# Altium schematic symbol library FR5969v1.0.SchLib: 7 symbols
Pins are listed as number, name and electrical type; pins without a type are passive.

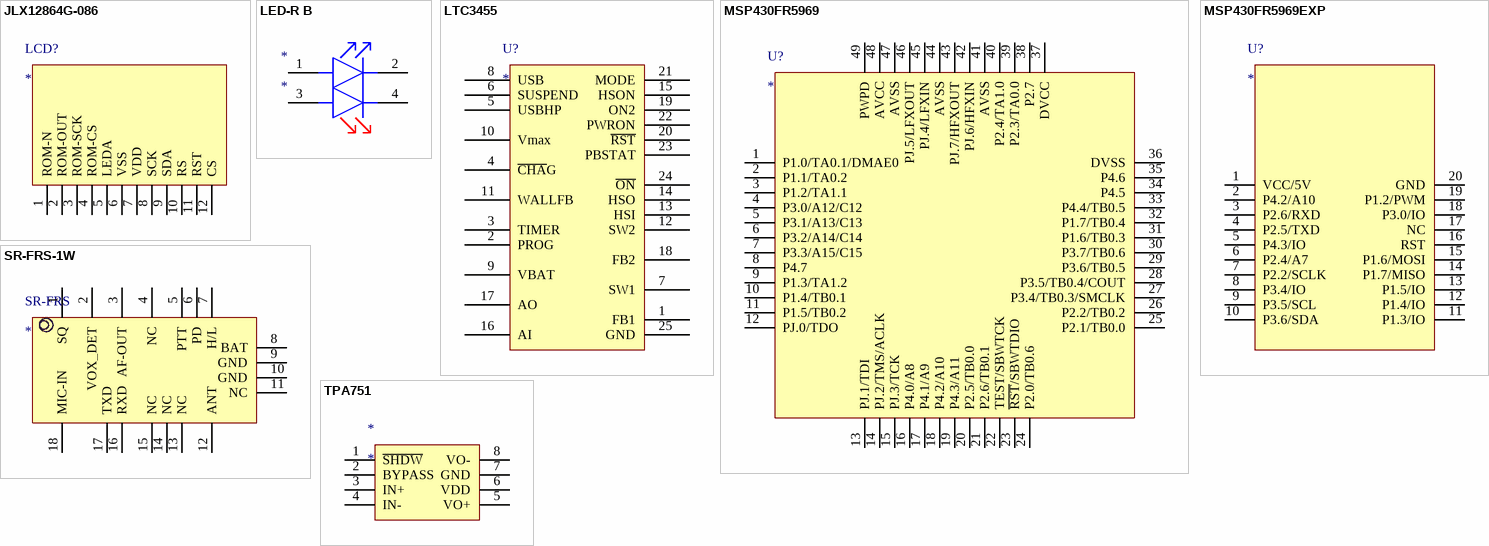
[diagram p0: symbols JLX12864G-086 to TPA751]

## JLX12864G-086
designator LCD?
LCD
pins: 1 ROM-N, 2 ROM-OUT, 3 ROM-SCK, 4 ROM-CS, 5 LEDA, 6 VSS, 7 VDD, 8 SCK, 9 SDA, 10 RS, 11 RST, 12 CS

## LED-R B
designator *
pins: 1, 2, 3, 4

## LTC3455
designator U?
LI-CELL charger
footprint QFN24 (QFN, 24-Leads)
pins: 1 FB1, 2 PROG, 3 TIMER, 4 ~{CHA}G, 5 USBHP, 6 SUSPEND, 7 SW1, 8 USB, 9 VBAT, 10 Vmax, 11 WALLFB, 12 SW2, 13 HSI, 14 HSO, 15 HSON, 16 AI, 17 AO, 18 FB2, 19 ON2, 20 ~{RST}, 21 MODE, 22 PWRON, 23 PBSTAT, 24 ~{ON}, 25 GND

## MSP430FR5969
designator U?
MSP420FRxxxx
footprint QFN-48 (Footprint not found)
pins: 1 P1.0/TA0.1/DMAE0, 2 P1.1/TA0.2, 3 P1.2/TA1.1, 4 P3.0/A12/C12, 5 P3.1/A13/C13, 6 P3.2/A14/C14, 7 P3.3/A15/C15, 8 P4.7, 9 P1.3/TA1.2, 10 P1.4/TB0.1, 11 P1.5/TB0.2, 12 PJ.0/TDO, 13 PJ.1/TDI, 14 PJ.2/TMS/ACLK, 15 PJ.3/TCK, 16 P4.0/A8, 17 P4.1/A9, 18 P4.2/A10, 19 P4.3/A11, 20 P2.5/TB0.0, 21 P2.6/TB0.1, 22 TEST/SBWTCK, 23 ~{RST}/SBWTDIO, 24 P2.0/TB0.6, 25 P2.1/TB0.0, 26 P2.2/TB0.2, 27 P3.4/TB0.3/SMCLK, 28 P3.5/TB0.4/COUT, 29 P3.6/TB0.5, 30 P3.7/TB0.6, 31 P1.6/TB0.3, 32 P1.7/TB0.4, 33 P4.4/TB0.5, 34 P4.5, 35 P4.6, 36 DVSS, 37 DVCC, 38 P2.7, 39 P2.3/TA0.0, 40 P2.4/TA1.0, 41 AVSS, 42 PJ.6/HFXIN, 43 PJ.7/HFXOUT, 44 AVSS, 45 PJ.4/LFXIN, 46 PJ.5/LFXOUT, 47 AVSS, 48 AVCC, 49 PWPD

## MSP430FR5969EXP
designator U?
MSP430FR5969 Launchpad board
footprint MSP430FR5969EXP (Footprint not found)
pins: 1 VCC/5V, 2 P4.2/A10, 3 P2.6/RXD, 4 P2.5/TXD, 5 P4.3/IO, 6 P2.4/A7, 7 P2.2/SCLK, 8 P3.4/IO, 9 P3.5/SCL, 10 P3.6/SDA, 11 P1.3/IO, 12 P1.4/IO, 13 P1.5/IO, 14 P1.7/MISO, 15 P1.6/MOSI, 16 RST, 17 NC, 18 P3.0/IO, 19 P1.2/PWM, 20 GND

## SR-FRS-1W
designator SR-FRS
footprint SR-FRS-1W
pins: 1 SQ, 2 VOX_DET, 3 AF-OUT, 4 NC, 5 PTT, 6 PD, 7 H/L, 8 BAT, 9 GND, 10 GND, 11 NC, 12 ANT, 13 NC, 14 NC, 15 NC, 16 RXD, 17 TXD, 18 MIC-IN

## TPA751
designator *
700mW AB类OP
footprint SO-8
pins: 1 ~{SHDW}, 2 BYPASS, 3 IN+, 4 IN-, 5 VO+, 6 VDD, 7 GND, 8 VO-